# Altium footprint library CORE_FPGA.PcbLib: 20 footprints (part 2 of 2)
Each footprint in its own frame and in the unit in brackets; x right, y up, seen from the top. Pads: shape width x height; smd on the part's side, far side on the other; paste and mask are expansions set on the pad; w line width, h text height; cw(c..) or ccw(c..) is an arc to the next point about the centre after c.
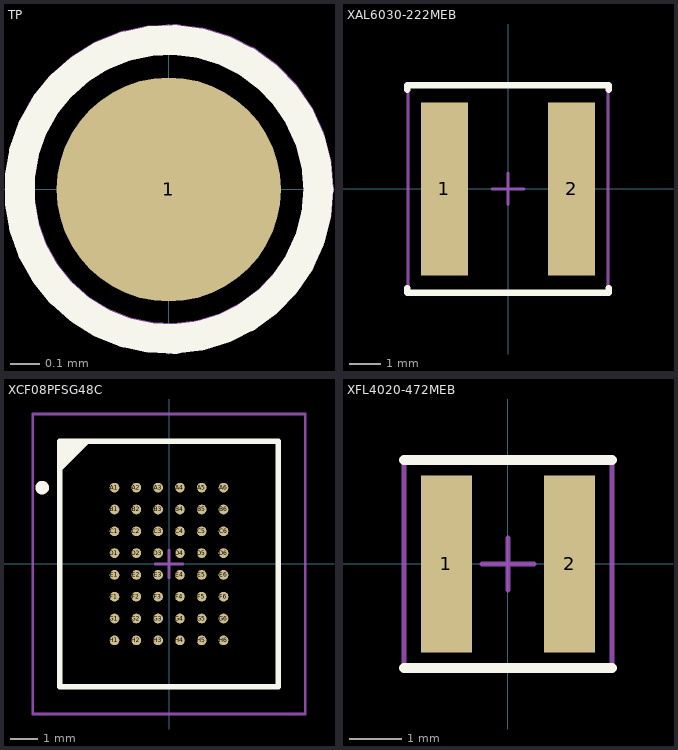
[diagram p1: the footprints below, top view; thin cyan lines are the x and y axes]

## TP [mil]
pads (1):
  round 30 smd: 1(0,0)
Top Overlay:
  circle w4: c0,0 r20
Mechanical 16:
  circle w4: c0.05,0.12 r20
Mechanical 31:
  text ".Designator" at -16.42,-30.72 h30

## XAL6030-222MEB [mm] "Precision Wire Wound Inductor, 2-Leads, Body 6.36x6.56mm, IPC Medium Density"
height 3.1
pads (2):
  rect 1.5x5.5 smd: 1(-2.02,0) 2(2.02,0)
Top Overlay:
  lines w0.2: -3.2,-3.15 -3.2,-3.3 3.2,-3.3 3.2,-3.15 ; -3.2,3.15 -3.2,3.3 3.2,3.3 3.2,3.15
Mechanical 13:
  lines w0.1: -3.18,-3.28 3.18,-3.28 3.18,3.28 -3.18,3.28 -3.18,-3.28
Mechanical 15:
  lines w0.05: -3.18,-3.304 3.187,-3.304 3.187,3.301 -3.18,3.301 -3.18,-3.304
  lines w0.1: -0.5,0 0.5,0 ; 0,-0.5 0,0.5
3D body: height 3.1, standoff 0, extent -3.18,-3.28 3.18,3.28

## XCF08PFSG48C [mm] "BGA, 48-Leads, Body 9x8mm, Pitch 0.8mm"
height 1.2
pads (48):
  round 0.356 smd mask+0.051: A1(-2,2.8) A2(-1.2,2.8) A3(-0.4,2.8) A4(0.4,2.8) A5(1.2,2.8) A6(2,2.8) B1(-2,2) B2(-1.2,2) B3(-0.4,2) B4(0.4,2) B5(1.2,2) B6(2,2) C1(-2,1.2) C2(-1.2,1.2) C3(-0.4,1.2) C4(0.4,1.2) C5(1.2,1.2) C6(2,1.2) D1(-2,0.4) D2(-1.2,0.4) D3(-0.4,0.4) D4(0.4,0.4) D5(1.2,0.4) D6(2,0.4) E1(-2,-0.4) E2(-1.2,-0.4) E3(-0.4,-0.4) E4(0.4,-0.4) E5(1.2,-0.4) E6(2,-0.4) F1(-2,-1.2) F2(-1.2,-1.2) F3(-0.4,-1.2) F4(0.4,-1.2) F5(1.2,-1.2) F6(2,-1.2) G1(-2,-2) G2(-1.2,-2) G3(-0.4,-2) G4(0.4,-2) G5(1.2,-2) G6(2,-2) H1(-2,-2.8) H2(-1.2,-2.8) H3(-0.4,-2.8) H4(0.4,-2.8) H5(1.2,-2.8) H6(2,-2.8)
Top Overlay:
  circle w0.25: c-4.65,2.8 r0.125
  region: -3,4.5 -4,3.5 -4,4.5
  lines w0.2: -4,3.5 -3,4.5 ; -4,-4.5 4,-4.5 4,4.5 -4,4.5 -4,-4.5
Mechanical 13:
  lines w0.1: -4,-4.5 4,-4.5 4,4.5 -4,4.5 -4,-4.5
Mechanical 15:
  lines w0.1: -0.5,0 0.5,0 ; 0,-0.5 0,0.5 ; -5,-5.5 5,-5.5 5,5.5 -5,5.5 -5,-5.5
3D body: height 1.2, standoff 0, extent -4,-4.5 4,4.5

## XFL4020-472MEB [mm]
height 2.1
pads (2):
  rect 0.98x3.4 smd: 1(-1.185,0) 2(1.185,0)
Top Overlay:
  lines w0.2: -2,-2 2,-2 ; -2,2 2,2
Mechanical 13:
  lines w0.1: -2,-2 2,-2 2,2 -2,2 -2,-2
Mechanical 15:
  lines w0.05: -2.001,-1.994 2.002,-1.994 2.002,1.998 -2.001,1.998 -2.001,-1.994
  lines w0.1: -0.5,0 0.5,0 ; 0,-0.5 0,0.5
3D body: height 2.1, standoff 0, extent -2,-2 2,2